# Altium schematic symbol library IC_HCNR201-000E.Schlib: 1 symbol
Pins are listed as number, name and electrical type; pins without a type are passive.

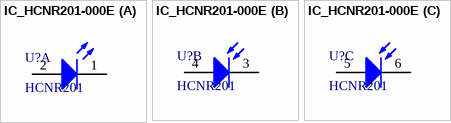
[diagram p0: symbol IC_HCNR201-000E]

## IC_HCNR201-000E
designator U?, comment HCNR201
High linearity analog optocoupler
part A pins: 1 K, 2 A
part B pins: 3 K, 4 A
part C pins: 5 A, 6 K